# Altium integrated library TYN8012.IntLib: 1 symbol
Pins are listed as number, name and electrical type; pins without a type are passive.

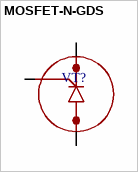
[diagram p0: symbol MOSFET-N-GDS]

## MOSFET-N-GDS
designator VT?
footprint TO-247-3
pins: 1 K, 2 A, 3 G